# Altium footprint library diodes.PcbLib: 5 footprints
Each footprint in its own frame and in the unit in brackets; x right, y up, seen from the top. Pads: shape width x height; smd on the part's side, far side on the other; paste and mask are expansions set on the pad; w line width, h text height; cw(c..) or ccw(c..) is an arc to the next point about the centre after c.
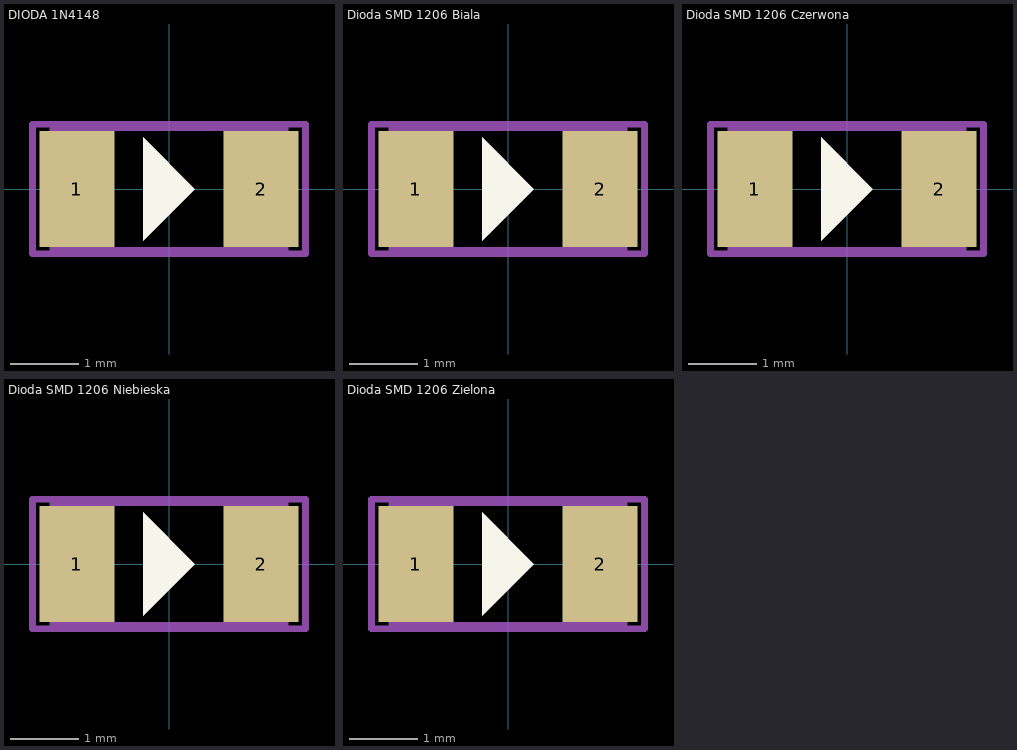
[diagram p0: the footprints below, top view; thin cyan lines are the x and y axes]

## DIODA 1N4148 [mm] "Dioda uniwersalna, SMD"
pads (2):
  rect 1.1x1.7 smd: 1(-1.35,0) 2(1.35,0)
Top Overlay:
  region: -0.381,0.762 -0.381,-0.762 0.381,0
Mechanical 13:
  lines w0.1: -1.7,-0.9 -1.7,0.9 1.7,0.9 1.7,-0.9 -1.7,-0.9
Mechanical 15:
  lines w0.1: -2,-0.95 -2,0.95 2,0.95 2,-0.95 -2,-0.95
3D body: height 1.25, standoff 1, extent -0.508,2.286 -0.381,2.286
3D body: height 1.2, standoff 0, extent -1.905,-0.889 1.905,0.889
3D body: height 1.21, standoff 1.2, extent 0.762,-0.889 1.27,0.889

## Dioda SMD 1206 Biala [mm]
pads (2):
  rect 1.1x1.7 smd: 1(-1.35,0) 2(1.35,0)
Top Overlay:
  region: -0.381,-0.762 -0.381,0.762 0.381,0
Mechanical 13:
  lines w0.1: -1.7,-0.9 -1.7,0.9 1.7,0.9 1.7,-0.9 -1.7,-0.9
Mechanical 15:
  lines w0.1: -2,-0.95 -2,0.95 2,0.95 2,-0.95 -2,-0.95
3D body: height 1.25, standoff 1, extent -0.508,2.286 -0.381,2.286
3D body: height 1.2, standoff 0, extent -1.905,-0.889 1.905,0.889
3D body: height 1.21, standoff 1.2, extent 0.762,-0.889 1.27,0.889

## Dioda SMD 1206 Czerwona [mm]
pads (2):
  rect 1.1x1.7 smd: 1(-1.35,0) 2(1.35,0)
Top Overlay:
  region: -0.381,-0.762 -0.381,0.762 0.381,0
Mechanical 13:
  lines w0.1: -1.7,-0.9 -1.7,0.9 1.7,0.9 1.7,-0.9 -1.7,-0.9
Mechanical 15:
  lines w0.1: -2,-0.95 -2,0.95 2,0.95 2,-0.95 -2,-0.95
3D body: height 1.25, standoff 1, extent -0.508,2.286 -0.381,2.286
3D body: height 1.2, standoff 0, extent -1.905,-0.889 1.905,0.889

## Dioda SMD 1206 Niebieska [mm]
pads (2):
  rect 1.1x1.7 smd: 1(-1.35,0) 2(1.35,0)
Top Overlay:
  region: -0.381,0.762 -0.381,-0.762 0.381,0
Mechanical 13:
  lines w0.1: -1.7,-0.9 -1.7,0.9 1.7,0.9 1.7,-0.9 -1.7,-0.9
Mechanical 15:
  lines w0.1: -2,-0.95 -2,0.95 2,0.95 2,-0.95 -2,-0.95
3D body: height 1.25, standoff 1, extent -0.508,2.286 -0.381,2.286
3D body: height 1.2, standoff 0, extent -1.905,-0.889 1.905,0.889
3D body: height 1.21, standoff 1.2, extent 0.762,-0.889 1.27,0.889

## Dioda SMD 1206 Zielona [mm]
pads (2):
  rect 1.1x1.7 smd: 1(-1.35,0) 2(1.35,0)
Top Overlay:
  region: -0.381,0.762 -0.381,-0.762 0.381,0
Mechanical 13:
  lines w0.1: -1.7,-0.9 -1.7,0.9 1.7,0.9 1.7,-0.9 -1.7,-0.9
Mechanical 15:
  lines w0.1: -2,-0.95 -2,0.95 2,0.95 2,-0.95 -2,-0.95
3D body: height 1.25, standoff 1, extent -0.508,2.286 -0.381,2.286
3D body: height 1.2, standoff 0, extent -1.905,-0.889 1.905,0.889
3D body: height 1.21, standoff 1.2, extent 0.762,-0.889 1.27,0.889